# Altium footprint library Connectors.PcbLib: 3 footprints
Each footprint in its own frame and in the unit in brackets; x right, y up, seen from the top. Pads: shape width x height; smd on the part's side, far side on the other; paste and mask are expansions set on the pad; w line width, h text height; cw(c..) or ccw(c..) is an arc to the next point about the centre after c.
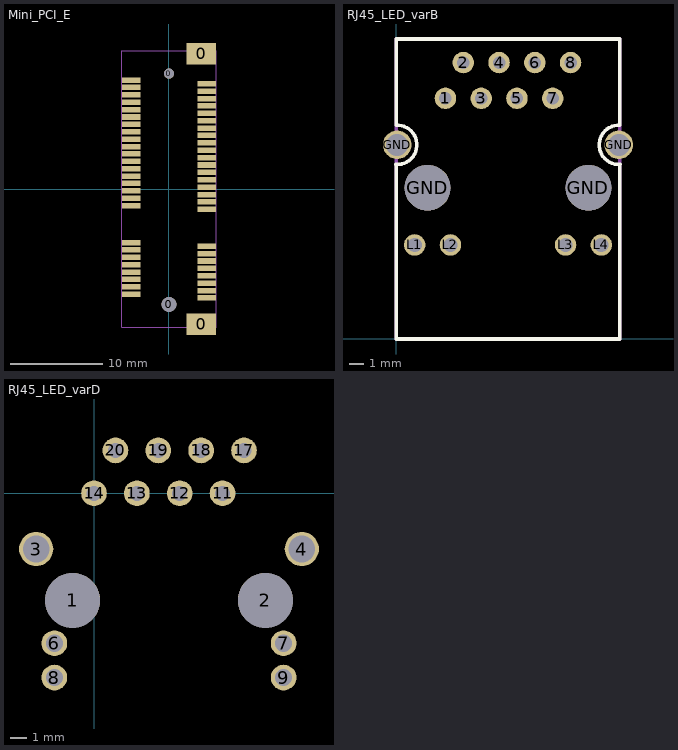
[diagram p0: the footprints below, top view; thin cyan lines are the x and y axes]

## Mini_PCI_E [mm]
pads (56):
  round 1.6 hole 1.6 unplated: 0(0,-12.5)
  round 1.1 hole 1.1 unplated: 0(0,12.5)
  rect 3.2x2.3 smd: 0(3.5,-14.65) 0(3.5,14.65)
  rect 2x0.6 smd: 1(4.1,-11.8) 2(-4.1,-11.4) 3(4.1,-11) 4(-4.1,-10.6) 5(4.1,-10.2) 6(-4.1,-9.8) 7(4.1,-9.4) 8(-4.1,-9) 9(4.1,-8.6) 10(-4.1,-8.2) 11(4.1,-7.8) 12(-4.1,-7.4) 13(4.1,-7) 14(-4.1,-6.6) 15(4.1,-6.2) 16(-4.1,-5.8) 17(4.1,-2.2) 18(-4.1,-1.8) 19(4.1,-1.4) 20(-4.1,-1) 21(4.1,-0.6) 22(-4.1,-0.2) 23(4.1,0.2) 24(-4.1,0.6) 25(4.1,1) 26(-4.1,1.4) 27(4.1,1.8) 28(-4.1,2.2) 29(4.1,2.6) 30(-4.1,3) 31(4.1,3.4) 32(-4.1,3.8) 33(4.1,4.2) 34(-4.1,4.6) 35(4.1,5) 36(-4.1,5.4) 37(4.1,5.8) 38(-4.1,6.2) 39(4.1,6.6) 40(-4.1,7) 41(4.1,7.4) 42(-4.1,7.8) 43(4.1,8.2) 44(-4.1,8.6) 45(4.1,9) 46(-4.1,9.4) 47(4.1,9.8) 48(-4.1,10.2) 49(4.1,10.6) 50(-4.1,11) 51(4.1,11.4) 52(-4.1,11.8)
Mechanical 1:
  lines w0.1: -5.1,-15 -5.1,15 5.1,15 5.1,-15 -5.1,-15
  text ".Designator" at 0,-4.5 h1.52
3D body: height 1.27, standoff 0, extent -2.54,-2.537 2.54,2.537

## RJ45_LED_varB [mil] "ARJM11B1-009-AB-EW2"
pads (16):
  round 60 hole 35: 1(138,673) 2(188,773) 3(238,673) 4(288,773) 5(338,673) 6(388,773) 7(438,673) 8(488,773)
  round 80 hole 62: GND(3,543) GND(623,543)
  round 128 hole 128: GND(88,423)
  round 128 hole 127.95: GND(538,423)
  round 60 hole 40: L1(52,263) L2(152,263) L3(474,263) L4(574,263)
Top Overlay:
  lines w10: -0.17,488.05 ccw(c3,543) -0.11,597.95 -0.11,838.89 ; 0,487.89 0,0 626,0 626,487.27 ; 0,839 626,839 626,598.99 ; 625.94,597.93 ccw(c623,543) 626.85,488.13
Mechanical 1:
  lines w10: 0,0 0,839 626,839 626,0 0,0
3D body "RJ45.stp": height 535.43, standoff 0, extent 0,0.41 625.99,839

## RJ45_LED_varD [mil] "ARJM11D7-809-AB-EW4"
pads (16):
  round 128 hole 128: 1(-50,-250)
  round 128 hole 127.95: 2(400,-250)
  round 80 hole 62: 3(-135,-130) 4(485,-130)
  round 60 hole 40: 6(-92.5,-350) 7(442.5,-350) 8(-92.5,-430) 9(442.5,-430)
  round 60 hole 35: 11(300,0) 12(200,0) 13(100,0) 14(0,0) 17(350,100) 18(250,100) 19(150,100) 20(50,100)